# Altium schematic symbol library Library.SchLib: 117 symbols
Pins are listed as number, name and electrical type; pins without a type are passive.

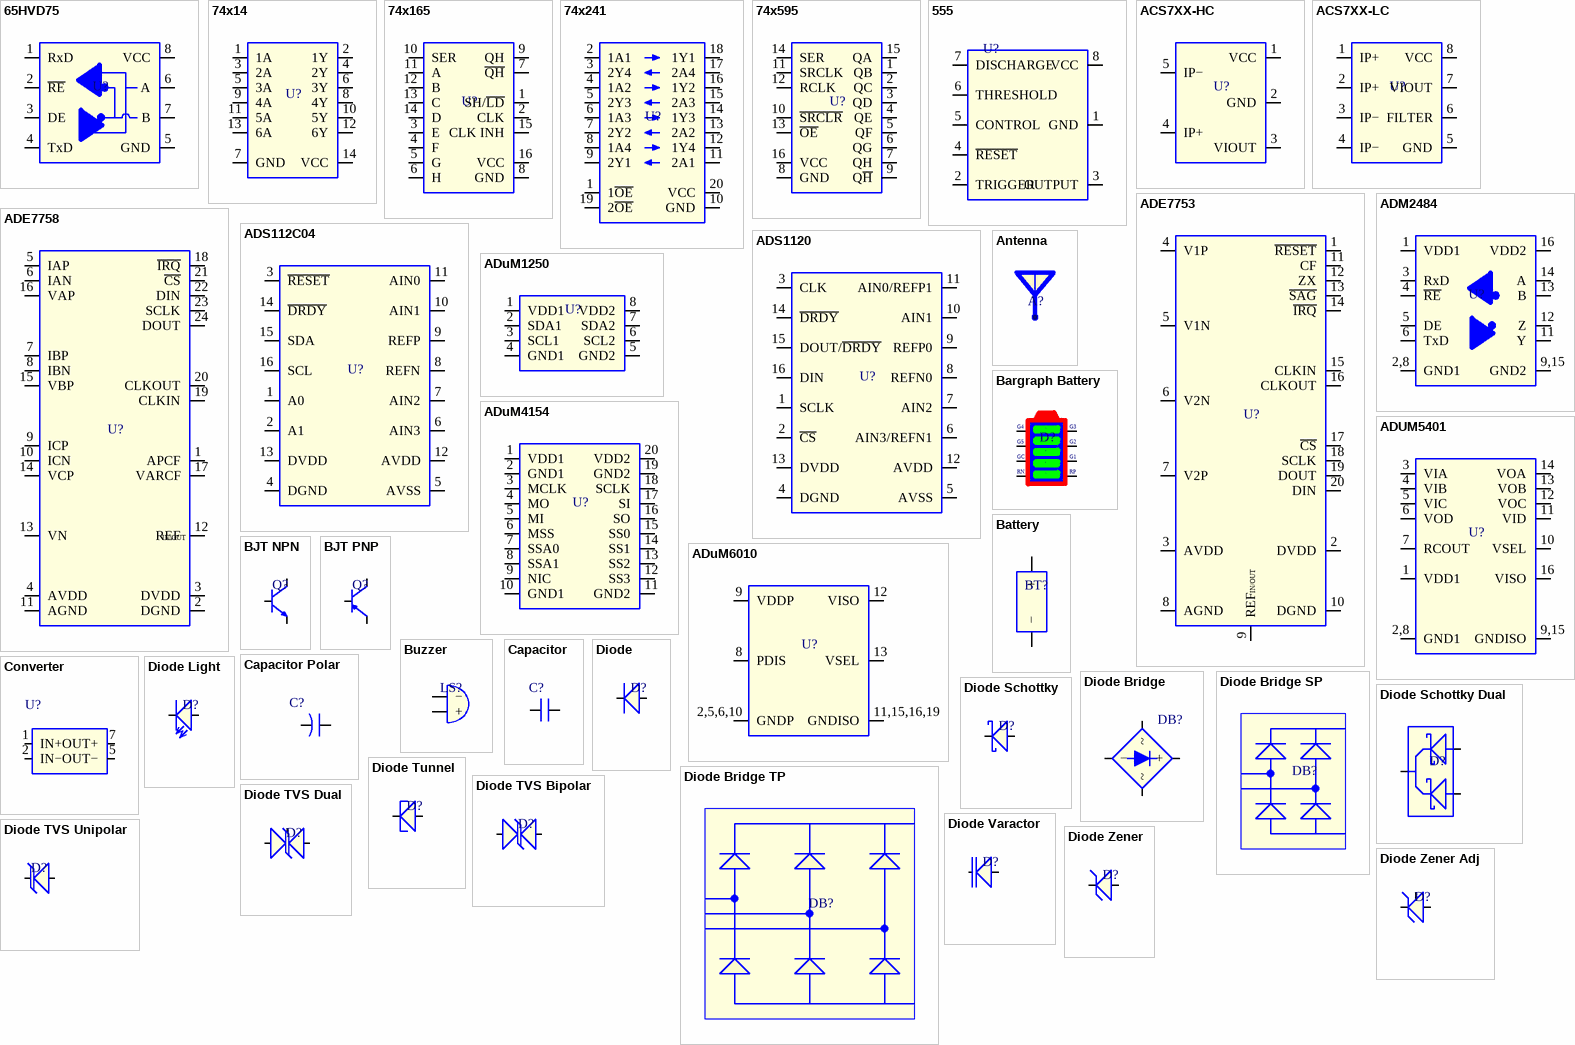
[diagram p0: symbols 65HVD75 to Diode Zener Adj]

## 65HVD75
designator U?
pins: 1 RxD, 2 ~{RE}, 3 DE, 4 TxD, 5 GND, 6 A, 7 B, 8 VCC

## 74x14
designator U?
pins: 1 1A, 2 1Y, 3 2A, 4 2Y, 5 3A, 6 3Y, 7 GND, 8 4Y, 9 4A, 10 5Y, 11 5A, 12 6Y, 13 6A, 14 VCC

## 74x165
designator U?
pins: 1 SH/~{LD}, 2 CLK, 3 E, 4 F, 5 G, 6 H, 7 ~{QH}, 8 GND, 9 QH, 10 SER, 11 A, 12 B, 13 C, 14 D, 15 CLK INH, 16 VCC

## 74x241
designator U?
pins: 1 1~{OE}, 2 1A1, 3 2Y4, 4 1A2, 5 2Y3, 6 1A3, 7 2Y2, 8 1A4, 9 2Y1, 10 GND, 11 2A1, 12 1Y4, 13 2A2, 14 1Y3, 15 2A3, 16 1Y2, 17 2A4, 18 1Y1, 19 2~{OE}, 20 VCC

## 74x595
designator U?
pins: 1 QB, 2 QC, 3 QD, 4 QE, 5 QF, 6 QG, 7 QH, 8 GND, 9 Q~{H}, 10 ~{SRCLR}, 11 SRCLK, 12 RCLK, 13 ~{OE}, 14 SER, 15 QA, 16 VCC

## 555
designator U?
pins: 1 GND, 2 TRIGGER, 3 OUTPUT, 4 ~{RESET}, 5 CONTROL, 6 THRESHOLD, 7 DISCHARGE, 8 VCC

## ACS7XX-HC
designator U?
pins: 1 VCC, 2 GND, 3 VIOUT, 4 IP+, 5 IP−

## ACS7XX-LC
designator U?
pins: 1 IP+, 2 IP+, 3 IP−, 4 IP−, 5 GND, 6 FILTER, 7 VIOUT, 8 VCC

## ADE7753
designator U?
pins: 1 ~{RESET}, 2 DVDD, 3 AVDD, 4 V1P, 5 V1N, 6 V2N, 7 V2P, 8 AGND, 9 REF, 10 DGND, 11 CF, 12 ZX, 13 ~{SAG}, 14 ~{IRQ}, 15 CLKIN, 16 CLKOUT, 17 ~{CS}, 18 SCLK, 19 DOUT, 20 DIN
text: IN/OUT

## ADE7758
designator U?
pins: 1 APCF, 2 DGND, 3 DVDD, 4 AVDD, 5 IAP, 6 IAN, 7 IBP, 8 IBN, 9 ICP, 10 ICN, 11 AGND, 12 REF, 13 VN, 14 VCP, 15 VBP, 16 VAP, 17 VARCF, 18 ~{IRQ}, 19 CLKIN, 20 CLKOUT, 21 ~{CS}, 22 DIN, 23 SCLK, 24 DOUT
text: IN/OUT

## ADM2484
designator U?
pins: 1 VDD1, 2,8 GND1, 3 RxD, 4 ~{RE}, 5 DE, 6 TxD, 9,15 GND2, 11 Y, 12 Z, 13 B, 14 A, 16 VDD2

## ADS112C04
designator U?
pins: 1 A0, 2 A1, 3 ~{RESET}, 4 DGND, 5 AVSS, 6 AIN3, 7 AIN2, 8 REFN, 9 REFP, 10 AIN1, 11 AIN0, 12 AVDD, 13 DVDD, 14 ~{DRDY}, 15 SDA, 16 SCL

## ADS1120
designator U?
pins: 1 SCLK, 2 ~{CS}, 3 CLK, 4 DGND, 5 AVSS, 6 AIN3/REFN1, 7 AIN2, 8 REFN0, 9 REFP0, 10 AIN1, 11 AIN0/REFP1, 12 AVDD, 13 DVDD, 14 ~{DRDY}, 15 DOUT/~{DRDY}, 16 DIN

## ADuM1250
designator U?
pins: 1 VDD1, 2 SDA1, 3 SCL1, 4 GND1, 5 GND2, 6 SCL2, 7 SDA2, 8 VDD2

## ADuM4154
designator U?
pins: 1 VDD1, 2 GND1, 3 MCLK, 4 MO, 5 MI, 6 MSS, 7 SSA0, 8 SSA1, 9 NIC, 10 GND1, 11 GND2, 12 SS3, 13 SS2, 14 SS1, 15 SS0, 16 SO, 17 SI, 18 SCLK, 19 GND2, 20 VDD2

## ADUM5401
designator U?
pins: 1 VDD1, 2,8 GND1, 3 VIA, 4 VIB, 5 VIC, 6 VOD, 7 RCOUT, 9,15 GNDISO, 10 VSEL, 11 VID, 12 VOC, 13 VOB, 14 VOA, 16 VISO

## ADuM6010
designator U?
pins: 2,5,6,10 GNDP, 8 PDIS, 9 VDDP, 11,15,16,19 GNDISO, 12 VISO, 13 VSEL

## Antenna
designator A?
pins: 1, 2 hidden to GND

## Bargraph Battery
designator D?
pins: 1, 2, 3, 4, 5, 6, 7, 8
text: G4; G3; G5; G2; GC; G1; RN; RP

## Battery
designator BT?
pins: 1 −, 2 +

## BJT NPN
designator Q?
pins: 1 B, 2 E, 3 C

## BJT PNP
designator Q?
pins: 1 B, 2 E, 3 C

## Buzzer
designator LS?
pins: 1 −, 2 +

## Capacitor
designator C?
pins: 1, 2

## Capacitor Polar
designator C?
pins: 1, 2

## Converter
designator U?
pins: 1 IN+ (power), 2 IN− (power), 5 OUT− (power), 7 OUT+ (power)

## Diode
designator D?
pins: 1 K, 2 A

## Diode Bridge
designator DB?
pins: 1 ~, 2 ~, 3 +, 4 −

## Diode Bridge SP
designator DB?
pins: 1, 2, 3, 4

## Diode Bridge TP
designator DB?
pins: 1, 2, 3, 4, 5

## Diode Light
designator D?
pins: 1 K, 2 A

## Diode Schottky
designator D?
pins: 1 K, 2 A

## Diode Schottky Dual
designator D?
pins: 1 A1, 2 CK, 3 A2

## Diode Tunnel
designator D?
pins: 1 K, 2 A

## Diode TVS Bipolar
designator D?
pins: 1 K, 2 A

## Diode TVS Dual
designator D?
pins: 1 K, 2 A, 3 C

## Diode TVS Unipolar
designator D?
pins: 1 K, 2 A

## Diode Varactor
designator D?
pins: 1 K, 2 A

## Diode Zener
designator D?
pins: 1 K, 2 A

## Diode Zener Adj
designator D?
pins: 1 R, 2 A, 3 K

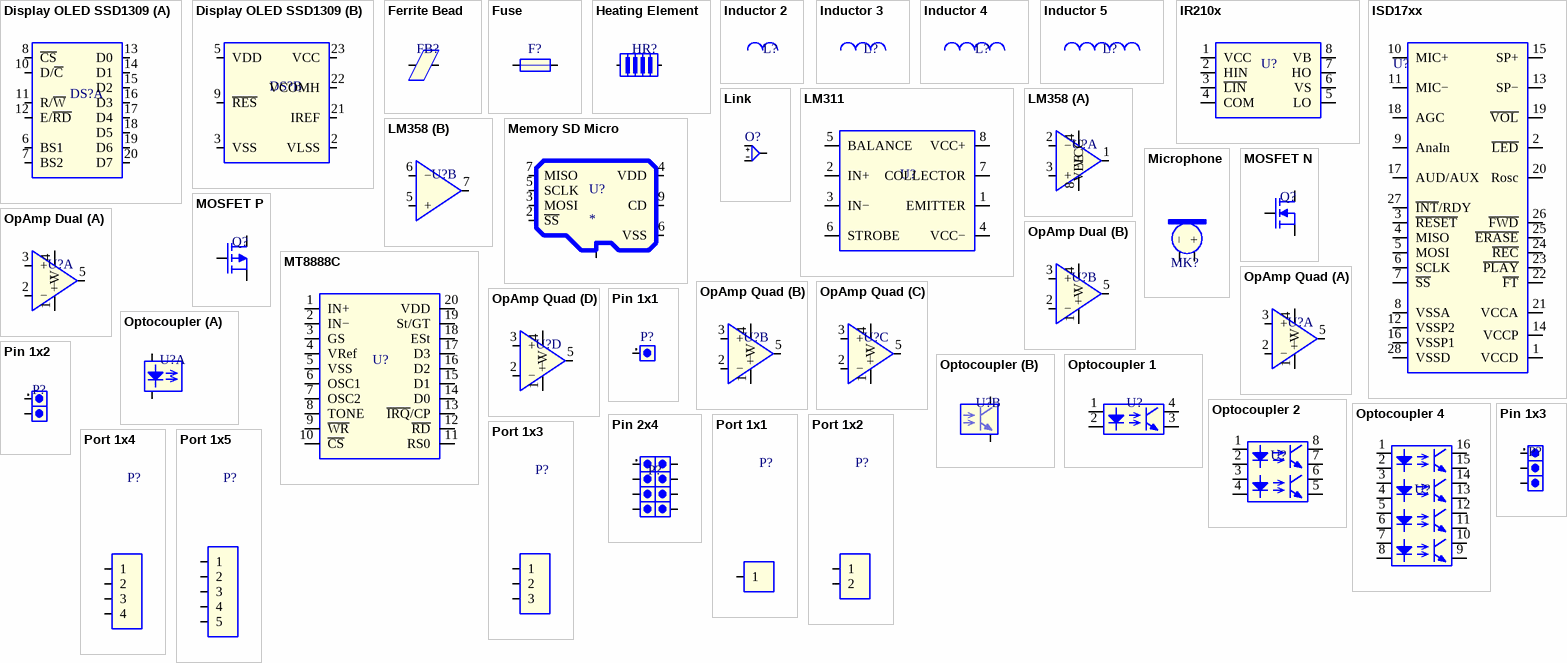
[diagram p1: symbols Display OLED SSD1309 to Port 1x5]

## Display OLED SSD1309
designator DS?
part A pins: 6 BS1, 7 BS2, 8 ~{CS}, 10 D/~{C}, 11 R/~{W}, 12 E/~{RD}, 13 D0, 14 D1, 15 D2, 16 D3, 17 D4, 18 D5, 19 D6, 20 D7
part B pins: 2 VLSS, 3 VSS, 5 VDD, 9 ~{RES}, 21 IREF, 22 VCOMH, 23 VCC

## Ferrite Bead
designator FB?
pins: 1, 2

## Fuse
designator F?
pins: 1, 2

## Heating Element
designator HR?
pins: 1, 2

## Inductor 2
designator L?
pins: 1, 2

## Inductor 3
designator L?
pins: 1, 2

## Inductor 4
designator L?
pins: 1, 2

## Inductor 5
designator L?
pins: 1, 2

## IR210x
designator U?
pins: 1 VCC (power), 2 HIN, 3 ~{LIN}, 4 COM (power), 5 LO, 6 VS, 7 HO, 8 VB

## ISD17xx
designator U?
pins: 1 VCCD, 2 ~{LED}, 3 ~{RESET}, 4 MISO, 5 MOSI, 6 SCLK, 7 ~{SS}, 8 VSSA, 9 AnaIn, 10 MIC+, 11 MIC−, 12 VSSP2, 13 SP−, 14 VCCP, 15 SP+, 16 VSSP1, 17 AUD/AUX, 18 AGC, 19 ~{VOL}, 20 Rosc, 21 VCCA, 22 ~{FT}, 23 ~{PLAY}, 24 ~{REC}, 25 ~{ERASE}, 26 ~{FWD}, 27 ~{INT}/RDY, 28 VSSD

## Link
designator O?
pins: 1, 2, 3
text: +; −

## LM311
designator U?
pins: 1 EMITTER, 2 IN+, 3 IN−, 4 VCC−, 5 BALANCE, 6 STROBE, 7 COLLECTOR, 8 VCC+

## LM358
designator U?
part A pins: 1, 2 −, 3 +, 4 VEE, 8 VCC
part B pins: 5 +, 6 −, 7

## Memory SD Micro
designator U?
pins: 0 CASE, 2 ~{SS}, 3 MOSI, 4 VDD, 5 SCLK, 6 VSS, 7 MISO, 9 CD

## Microphone
designator MK?
pins: 1 −, 2 +

## MOSFET N
designator Q?
pins: 1 G, 2 S, 3 D

## MOSFET P
designator Q?
pins: 1 G, 2 S, 3 D

## MT8888C
designator U?
pins: 1 IN+, 2 IN−, 3 GS, 4 VRef, 5 VSS, 6 OSC1, 7 OSC2, 8 TONE, 9 ~{WR}, 10 ~{CS}, 11 RS0, 12 ~{RD}, 13 ~{IRQ}/CP, 14 D0, 15 D1, 16 D2, 17 D3, 18 ESt, 19 St/GT, 20 VDD

## OpAmp Dual
designator U?
part A pins: 1 −V, 2 −, 3 +, 4 +V, 5
part B pins: 1 −V, 2 −, 3 +, 4 +V, 5

## OpAmp Quad
designator U?
part A pins: 1 −V, 2 −, 3 +, 4 +V, 5
part B pins: 1 −V, 2 −, 3 +, 4 +V, 5
part C pins: 1 −V, 2 −, 3 +, 4 +V, 5
part D pins: 1 −V, 2 −, 3 +, 4 +V, 5

## Optocoupler
designator U?
part A pins: 1, 2
part B pins: 3, 4

## Optocoupler 1
designator U?
pins: 1, 2, 3, 4

## Optocoupler 2
designator U?
pins: 1, 2, 3, 4, 5, 6, 7, 8

## Optocoupler 4
designator U?
pins: 1, 2, 3, 4, 5, 6, 7, 8, 9, 10, 11, 12, 13, 14, 15, 16

## Pin 1x1
designator P?
pins: 1

## Pin 1x2
designator P?
pins: 1, 2

## Pin 1x3
designator P?
pins: 1, 2, 3

## Pin 2x4
designator P?
pins: 1, 2, 3, 4, 5, 6, 7, 8

## Port 1x1
designator P?
pins: 1

## Port 1x2
designator P?
pins: 1, 2

## Port 1x3
designator P?
pins: 1, 2, 3

## Port 1x4
designator P?
pins: 1, 2, 3, 4

## Port 1x5
designator P?
pins: 1, 2, 3, 4, 5

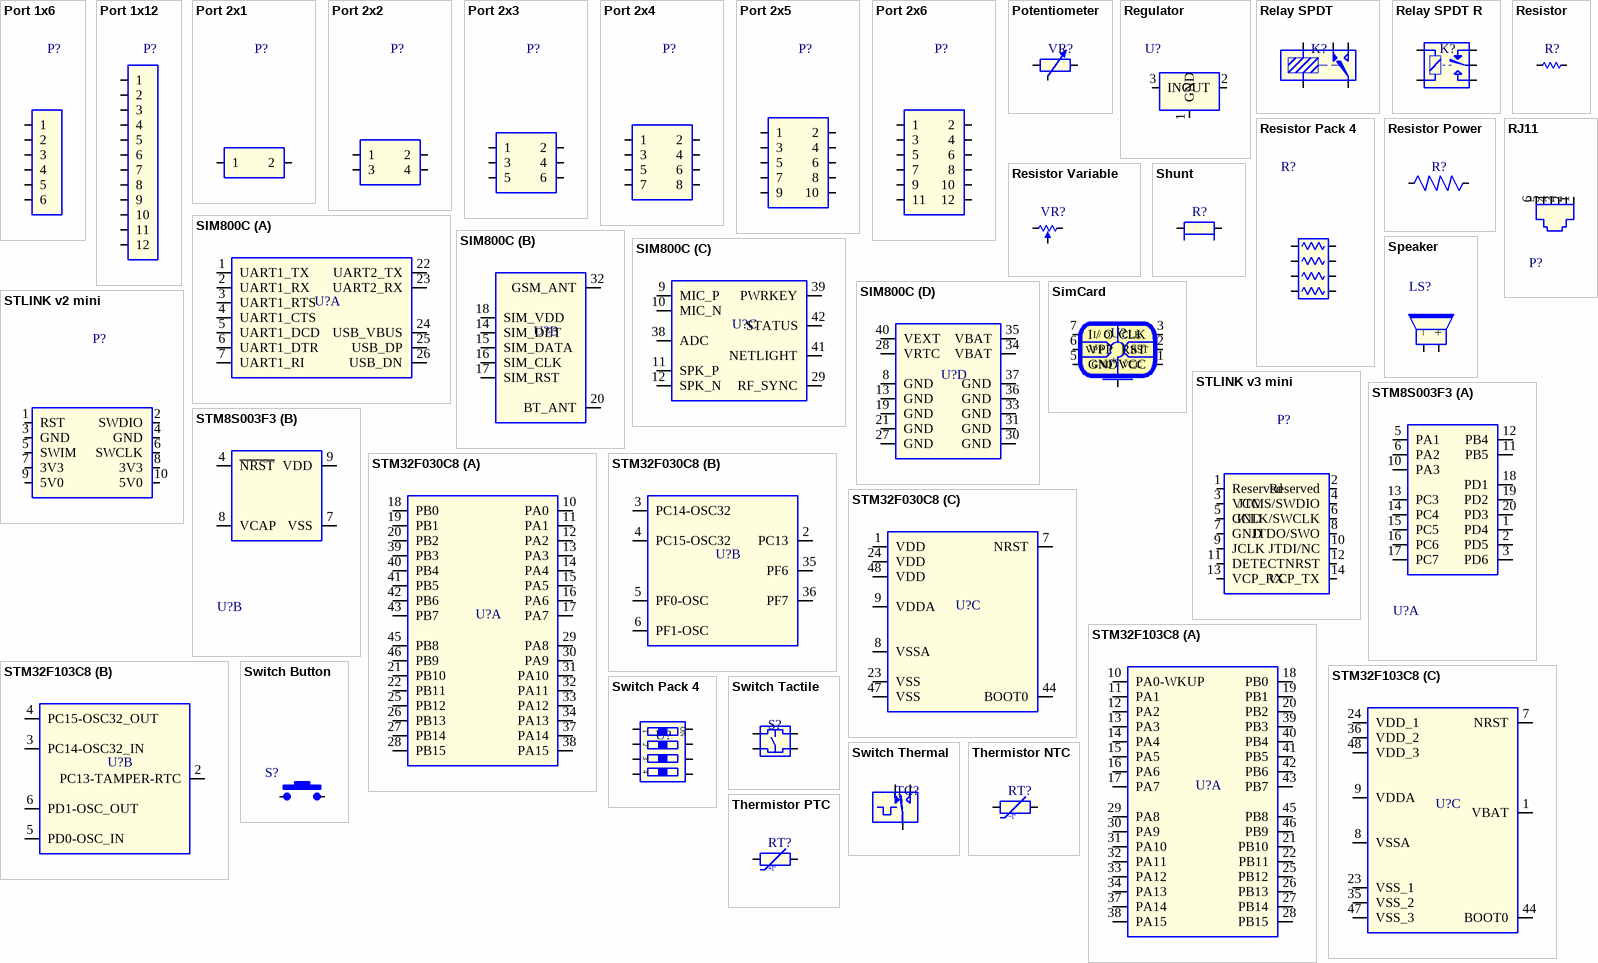
[diagram p2: symbols Port 1x6 to Thermistor PTC]

## Port 1x6
designator P?
pins: 1, 2, 3, 4, 5, 6

## Port 1x12
designator P?
pins: 1, 2, 3, 4, 5, 6, 7, 8, 9, 10, 11, 12

## Port 2x1
designator P?
pins: 1, 2

## Port 2x2
designator P?
pins: 1, 2, 3, 4

## Port 2x3
designator P?
pins: 1, 2, 3, 4, 5, 6

## Port 2x4
designator P?
pins: 1, 2, 3, 4, 5, 6, 7, 8

## Port 2x5
designator P?
pins: 1, 2, 3, 4, 5, 6, 7, 8, 9, 10

## Port 2x6
designator P?
pins: 1, 2, 3, 4, 5, 6, 7, 8, 9, 10, 11, 12

## Potentiometer
designator VR?
pins: 1, 2, 3

## Regulator
designator U?
pins: 1 GND (power), 2 OUT (power), 3 IN (power)

## Relay SPDT
designator K?
pins: 1 LP, 2 LN, 3 CM, 4 NC, 5 NO

## Relay SPDT R
designator K?
pins: 1 LP, 2 LM, 3 CM, 4 NC, 5 NO

## Resistor
designator R?
pins: 1, 2

## Resistor Pack 4
designator R?
pins: ?1, ?2, ?3, ?4, ?5, ?6, ?7, ?8

## Resistor Power
designator R?
pins: 1, 2

## Resistor Variable
designator VR?
pins: 1, 2, 3

## RJ11
designator P?
pins: 1, 2, 3, 4, 5, 6

## Shunt
designator R?
pins: 1, 2

## SIM800C
designator U?
part A pins: 1 UART1_TX, 2 UART1_RX, 3 UART1_RTS, 4 UART1_CTS, 5 UART1_DCD, 6 UART1_DTR, 7 UART1_RI, 22 UART2_TX, 23 UART2_RX, 24 USB_VBUS, 25 USB_DP, 26 USB_DN
part B pins: 14 SIM_DET, 15 SIM_DATA, 16 SIM_CLK, 17 SIM_RST, 18 SIM_VDD, 20 BT_ANT, 32 GSM_ANT
part C pins: 9 MIC_P, 10 MIC_N, 11 SPK_P, 12 SPK_N, 29 RF_SYNC, 38 ADC, 39 PWRKEY, 41 NETLIGHT, 42 STATUS
part D pins: 8 GND, 13 GND, 19 GND, 21 GND, 27 GND, 28 VRTC, 30 GND, 31 GND, 33 GND, 34 VBAT, 35 VBAT, 36 GND, 37 GND, 40 VEXT

## SimCard
designator U?
pins: 0 CASE, 1 VCC, 2 RST, 3 CLK, 5 GND, 6 VPP, 7 I / O

## Speaker
designator LS?
pins: 1 −, 2 +

## STLINK v2 mini
designator P?
pins: 1 RST, 2 SWDIO, 3 GND, 4 GND, 5 SWIM, 6 SWCLK, 7 3V3, 8 3V3, 9 5V0, 10 5V0

## STLINK v3 mini
designator P?
pins: 1 Reserved, 2 Reserved, 3 VCC, 4 JTMS/SWDIO, 5 GND, 6 JCLK/SWCLK, 7 GND, 8 JTDO/SWO, 9 JCLK, 10 JTDI/NC, 11 DETECT, 12 NRST, 13 VCP_RX, 14 VCP_TX

## STM8S003F3
designator U?
part A pins: 1 PD4, 2 PD5, 3 PD6, 5 PA1, 6 PA2, 10 PA3, 11 PB5, 12 PB4, 13 PC3, 14 PC4, 15 PC5, 16 PC6, 17 PC7, 18 PD1, 19 PD2, 20 PD3
part B pins: 4 ~{NRST}, 7 VSS, 8 VCAP, 9 VDD

## STM32F030C8
designator U?
part A pins: 10 PA0, 11 PA1, 12 PA2, 13 PA3, 14 PA4, 15 PA5, 16 PA6, 17 PA7, 18 PB0, 19 PB1, 20 PB2, 21 PB10, 22 PB11, 25 PB12, 26 PB13, 27 PB14, 28 PB15, 29 PA8, 30 PA9, 31 PA10, 32 PA11, 33 PA12, 34 PA13, 37 PA14, 38 PA15, 39 PB3, 40 PB4, 41 PB5, 42 PB6, 43 PB7, 45 PB8, 46 PB9
part B pins: 2 PC13, 3 PC14-OSC32, 4 PC15-OSC32, 5 PF0-OSC, 6 PF1-OSC, 35 PF6, 36 PF7
part C pins: 1 VDD, 7 NRST, 8 VSSA, 9 VDDA, 23 VSS, 24 VDD, 44 BOOT0, 47 VSS, 48 VDD

## STM32F103C8
designator U?
part A pins: 10 PA0-WKUP, 11 PA1, 12 PA2, 13 PA3, 14 PA4, 15 PA5, 16 PA6, 17 PA7, 18 PB0, 19 PB1, 20 PB2, 21 PB10, 22 PB11, 25 PB12, 26 PB13, 27 PB14, 28 PB15, 29 PA8, 30 PA9, 31 PA10, 32 PA11, 33 PA12, 34 PA13, 37 PA14, 38 PA15, 39 PB3, 40 PB4, 41 PB5, 42 PB6, 43 PB7, 45 PB8, 46 PB9
part B pins: 2 PC13-TAMPER-RTC, 3 PC14-OSC32_IN, 4 PC15-OSC32_OUT, 5 PD0-OSC_IN, 6 PD1-OSC_OUT
part C pins: 1 VBAT, 7 NRST, 8 VSSA, 9 VDDA, 23 VSS_1, 24 VDD_1, 35 VSS_2, 36 VDD_2, 44 BOOT0, 47 VSS_3, 48 VDD_3

## Switch Button
designator S?
pins: 1, 2

## Switch Pack 4
designator U?
pins: 1, 2, 3, 4, 11, 12, 13, 14
text: ON

## Switch Tactile
designator S?
pins: 1, 2, 3, 4

## Switch Thermal
designator TC?
pins: 1 CM, 2 NC, 3 NO

## Thermistor NTC
designator RT?
pins: 1, 2
text: −t°

## Thermistor PTC
designator RT?
pins: 1, 2
text: +t°

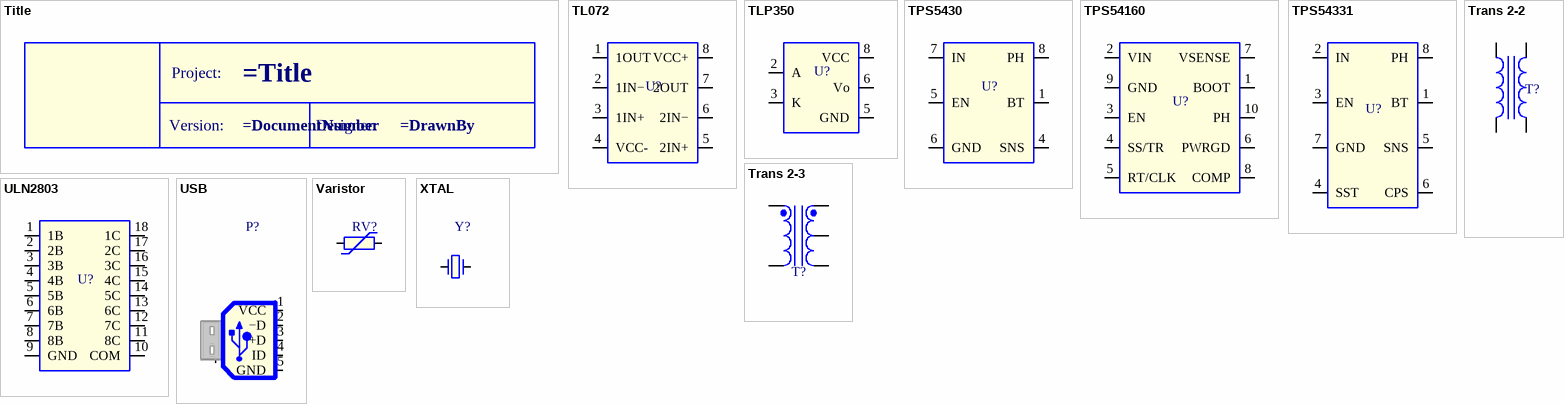
[diagram p3: symbols Title to XTAL]

## Title
designator ?  (graphical)
text: Project:; Version:; Designer:

## TL072
designator U?
pins: 1 1OUT, 2 1IN−, 3 1IN+, 4 VCC- (power), 5 2IN+, 6 2IN−, 7 2OUT, 8 VCC+ (power)

## TLP350
designator U?
pins: 2 A, 3 K, 5 GND, 6 Vo, 8 VCC

## TPS5430
designator U?
pins: 1 BT, 4 SNS, 5 EN, 6 GND, 7 IN, 8 PH

## TPS54160
designator U?
pins: 1 BOOT, 2 VIN, 3 EN, 4 SS/TR, 5 RT/CLK, 6 PWRGD, 7 VSENSE, 8 COMP, 9 GND, 10 PH

## TPS54331
designator U?
pins: 1 BT, 2 IN, 3 EN, 4 SST, 5 SNS, 6 CPS, 7 GND, 8 PH

## Trans 2-2
designator T?
pins: 1, 2, 3, 4

## Trans 2-3
designator T?
pins: 1 Pri+, 2 Pri-, 3 Sec+, 4 Sec, 5 Sec-

## ULN2803
designator U?
pins: 1 1B, 2 2B, 3 3B, 4 4B, 5 5B, 6 6B, 7 7B, 8 8B, 9 GND, 10 COM, 11 8C, 12 7C, 13 6C, 14 5C, 15 4C, 16 3C, 17 2C, 18 1C

## USB
designator P?
pins: 0 CASE, 1 VCC, 2 −D, 3 +D, 4 ID, 5 GND

## Varistor
designator RV?
pins: 1, 2

## XTAL
designator Y?
pins: 1 IN, 2 OUT